# Altium footprint library 28Pins_Project_V1I1.PcbLib: 27 footprints (part 1 of 2)
Each footprint in its own frame and in the unit in brackets; x right, y up, seen from the top. Pads: shape width x height; smd on the part's side, far side on the other; paste and mask are expansions set on the pad; w line width, h text height; cw(c..) or ccw(c..) is an arc to the next point about the centre after c.
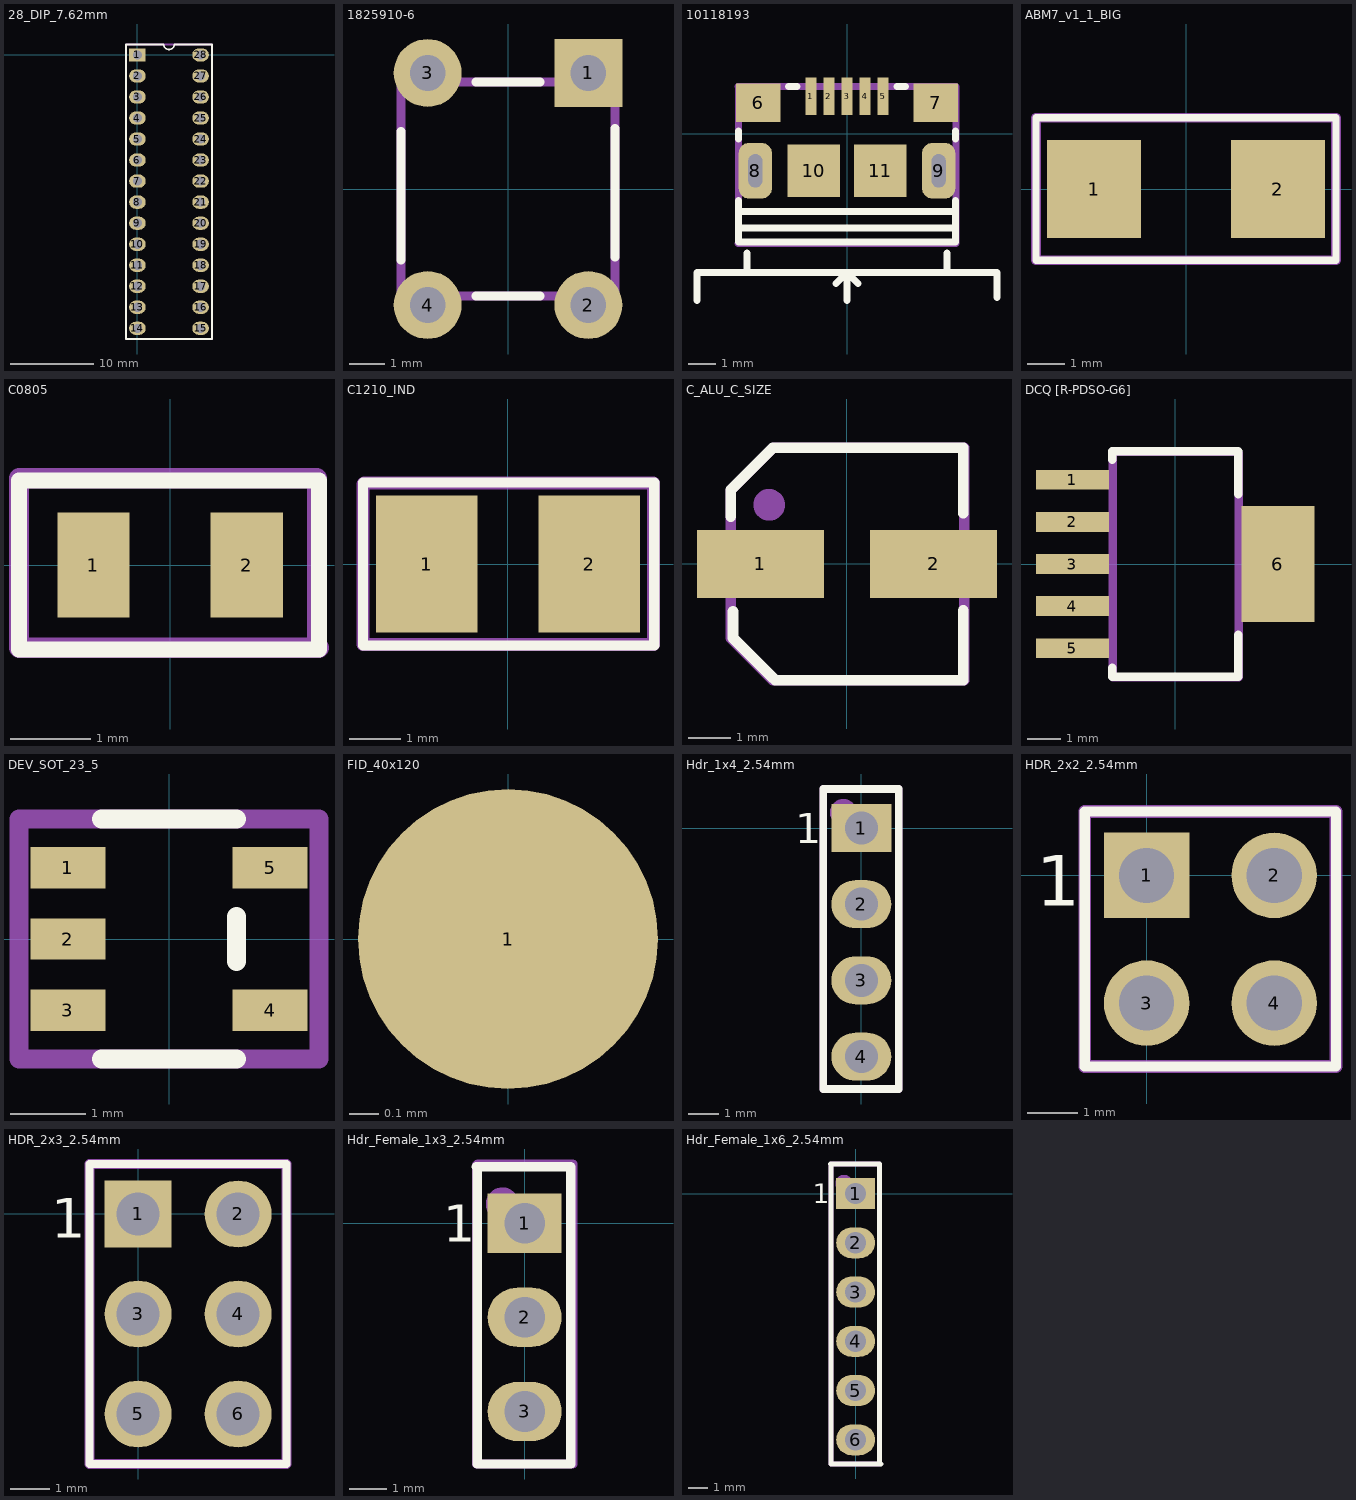
[diagram p0: the footprints below, top view; thin cyan lines are the x and y axes]

## 28-DIP 7.62MM SCKT [mm]
3D body "dil_socket.stp": height 2.8, standoff -4.57, extent -1.2,-34.25 8.9,1.25

## 28_DIP_7.62mm [mm]
pads (28):
  rect 2x1.6 hole 1.1: 1(0,0)
  oval 2x1.6 hole 1.1: 2(0,-2.54) 3(0,-5.08) 4(0,-7.62) 5(0,-10.16) 6(0,-12.7) 7(0,-15.24) 8(0,-17.78) 9(0,-20.32) 10(0,-22.86) 11(0,-25.4) 12(0,-27.94) 13(0,-30.48) 14(0,-33.02) 15(7.62,-33.02) 16(7.62,-30.48) 17(7.62,-27.94) 18(7.62,-25.4) 19(7.62,-22.86) 20(7.62,-20.32) 21(7.62,-17.78) 22(7.62,-15.24) 23(7.62,-12.7) 24(7.62,-10.16) 25(7.62,-7.62) 26(7.62,-5.08) 27(7.62,-2.54) 28(7.62,0)
Top Overlay:
  lines w0.2: 3.175,1.27 -1.39,1.27 -1.39,-34.31 9.01,-34.31 9.01,1.27 4.445,1.27 ; 3.175,1.29 ccw(c3.81,1.29) 4.445,1.29
Mechanical 1:
  circle w0.5: c-0.105,-0.03 r0.2
  lines w0.254: -1.39,1.27 -1.39,-34.31 9.01,-34.31 9.01,1.27 -1.39,1.27 ; -1.39,1.27 -1.39,1.27
  text ".Designator" at 4.511,-25.009 h3
3D body "DIP-28 N.step": height 7.5, standoff 0.15, extent -0.758,-34.21 8.379,0.99

## 1825910-6 [mm]
pads (4):
  rect 1.9x1.9 hole 1: 1(2.25,3.25)
  round 1.9 hole 1: 2(2.25,-3.25) 3(-2.25,3.25) 4(-2.25,-3.25)
Top Overlay:
  lines w0.254: -3,-1.988 -3,-1.088 -3,0.712 -3,1.612 ; -0.9,-3 0.9,-3 ; -0.9,3 0.9,3 ; 3,-1.9 3,1.7
Mechanical 1:
  lines w0.254: -3,-3 -3,1.7 -3,3 3,3 3,-1.4 3,-2.54 3,-3 ; -2.985,-3 0,-3 2.982,-3
3D body "User Library-FSM4JLH(1825910-5).step": height 5, standoff -3.51, extent -2.995,-3.9 2.995,3.898

## 10118193 [mm]
pads (11):
  rect 0.4x1.35 smd mask+0.05: 1(-1.3,1.338) 2(-0.65,1.338) 3(0,1.338) 4(0.65,1.338) 5(1.3,1.338)
  rect 1.6x1.4 smd: 6(-3.2,1.112) 7(3.2,1.112)
  rrect60% 1.2x2 hole 0.5 slot 1.2 at 90 deg mask+0.05: 8(-3.3,-1.338) 9(3.3,-1.338)
  rect 1.9x1.9 smd: 10(-1.2,-1.338) 11(1.2,-1.338)
Top Overlay:
  lines w0.254: -5.4,-6 -5.4,-5 5.4,-5 5.4,-5.9 ; -3.9,-3.392 3.895,-3.392 ; -3.9,-2.8 3.866,-2.8 ; -3.9,-2.4 -3.9,-3.9 3.9,-3.9 3.9,-2.4 ; -3.9,-0.2 -3.9,0.1 ; -3.6,-5 -3.6,-4.3 ; -2.1,1.7 -1.8,1.7 ; -0.4,-5.4 0,-5 ; 0,-6 0,-5 ; 0.4,-5.4 0,-5 ; 1.8,1.7 2.1,1.7 ; 3.6,-5 3.6,-4.3 ; 3.9,-0.2 3.9,0.1
Mechanical 1:
  lines w0.254: -3.928,-3.961 3.928,-3.961 3.928,1.7 -3.928,1.7 -3.898,1.669 -3.913,1.685 -3.906,1.677 -3.906,-3.938 -3.928,-3.961
  text ".Designator" at -1.546,-0.438 h1.52
3D body "10118193-0001LF..stp": height 2.71, standoff -0.89, extent -3.928,-3.961 3.928,1.7

## ABM7_v1_1_BIG [mm]
pads (2):
  rect 2.5x2.6 smd: 1(-2.45,0) 2(2.45,0)
Top Overlay:
  lines w0.2: -4,-1.9 4,-1.9 4,1.9 -4,1.9 -4,-1.9
Mechanical 1:
  lines w0.254: -4,-1.9 4,-1.9 4,1.9 -4,1.9 -4,-1.9
  text ".Designator" at -2.746,-0.538 h1.52
3D body "ABM7-16.000MHZ-D2Y-T.STEP": height 1.41, standoff 0.01, extent -3,-1.75 3,1.75

## C0805 [mm]
pads (2):
  rect 0.9x1.3 smd: 1(-0.95,0) 2(0.95,0)
Top Overlay:
  lines w0.2: 1.85,1.05 -1.875,1.05 -1.875,-1.05 1.85,-1.05 1.85,1.05 ; 1.85,1.05 1.85,1.05
Mechanical 1:
  lines w0.254: 1.825,-1 1.825,1.075 -1.875,1.075 -1.875,-1.025 1.85,-1.025
  text ".Designator" at -1.125,-0.25 h0.6
3D body "User Library-CAP0805-1.STEP": height 1.25, standoff 0, extent -1.025,-0.7 0.975,0.55
3D body "User Library-CAP0805-1.STEP": height 1.75, standoff 0.5, extent -1.025,-0.7 0.975,0.55

## C1210_IND [mm]
pads (2):
  rect 2x2.7 smd: 1(-1.6,0) 2(1.6,0)
Top Overlay:
  lines w0.2: -2.85,-1.6 -2.85,1.6 2.875,1.6 2.875,-1.6 -2.85,-1.6
Mechanical 1:
  lines w0.254: -2.85,1.575 -2.85,-1.58 2.86,-1.58 2.86,1.594 -1.486,1.594 -2.831,1.594
  text ".Designtor" at -1.95,-0.317 h1
3D body: height 2.7, standoff 0, extent -1.6,-1.25 -1.25,1.25
3D body: height 5.41, standoff -0.01, extent -0.5,3.25 -0.5,3.25
3D body: height 2.7, standoff 0, extent 1.25,-1.25 1.6,1.25
3D body: height 2.7, standoff 0, extent -1.25,-1.25 1.25,1.25
3D body: height 5.41, standoff -0.01, extent 0.7,2.1 0.7,2.1

## C_ALU_C_SIZE [mm]
pads (2):
  rect 3x1.6 smd: 1(-2.05,0) 2(2.05,0)
Top Overlay:
  lines w0.254: -2.75,1.125 -2.75,1.75 ; -2.7,-1.125 -2.7,-1.75 -1.75,-2.7 -1.7,-2.75 0.675,-2.75 2.75,-2.75 2.75,-1.1 ; 2.75,1.2 2.75,2.75 -1.75,2.75 ; -2.75,1.75 -1.75,2.75 ; -2.75,1.75 -1.75,2.75
Mechanical 1:
  circle w0.5: c-1.843,1.401 r0.125
  lines w0.254: -2.75,-1.75 -1.75,-2.75 2.775,-2.75 2.775,2.75 -1.75,2.75 -2.75,1.75 -2.75,-1.75
  text ".Designator" at -1.8,-0.767 h1.3
3D body "User Library-capacitor size C.step": height 5.41, standoff -0.01, extent -2.95,-2.65 2.95,2.65

## DCQ [R-PDSO-G6] [mm]
pads (6):
  rect 2.2x0.6 smd: 1(-3.1,2.54) 2(-3.1,1.27) 3(-3.1,0) 4(-3.1,-1.27) 5(-3.1,-2.54)
  rect 2.2x3.5 smd: 6(3.1,0)
Top Overlay:
  lines w0.254: -1.9,-3.13 -1.9,-3.4 1.9,-3.4 1.9,-2.14 ; -1.9,3.15 -1.9,3.4 1.9,3.4 1.9,2.11
Mechanical 1:
  lines w0.254: -1.89,3.41 -1.88,3.4 -1.88,3.37 ; -1.89,-3.42 1.91,-3.42 1.91,3.36 1.885,3.385 -1.88,3.385 -1.89,3.375 -1.89,-3.42
  text ".Designator" at -0.74,-0.82 h1.5
3D body "User Library-TPS73701DCQ.step": height 1.79, standoff -0.01, extent -3.69,-3.29 3.57,3.26

## DEV_SOT_23_5 [mm]
pads (5):
  rect 1x0.55 smd: 1(-1.35,0.95) 2(-1.35,0) 3(-1.35,-0.95) 4(1.35,-0.95) 5(1.35,0.95)
Top Overlay:
  lines w0.254: -0.9,-1.6 0.9,-1.6 ; -0.9,1.6 0.9,1.6 ; 0.9,-0.3 0.9,0.3
Mechanical 1:
  circle w0.2: c-1.345,0.943 r0.1
  lines w0.254: -2,-1.6 2,-1.6 2,1.6 -2,1.6 -2,-1.6
  text ".Designator" at -1.4,-0.3 h0.6
3D body "User Library-TPS560200DBV.step": height 1.31, standoff -0.14, extent -1.514,-1.5 1.514,1.5

## FID_40x120 [mil]
pads (1):
  round 40 smd paste-40 mask+40: 1(0,0)

## Hdr_1x4_2.54mm [mm]
pads (4):
  rect 2x1.6 hole 1.1: 1(0,0)
  oval 2x1.6 hole 1.1: 2(0,-2.54) 3(0,-5.08) 4(0,-7.62)
Top Overlay:
  lines w0.254: -1.275,-8.7 1.244,-8.7 1.244,1.3 0.675,1.3 -0.6,1.3 -1.275,1.3 -1.275,-8.7
  text "1" at -2.2,-0.5 h1
Mechanical 1:
  circle w0.5: c-0.597,0.517 r0.2
  lines w0.254: -1.275,1.3 1.244,1.3 1.244,-8.7 -1.275,-8.7 -1.275,1.3 ; -1.275,1.3 -1.275,1.3
  text ".Designator" at 0.464,-6.585 h1.52
3D body "HDR_1x4_White.stp": height 8.3, standoff -3.2, extent -1.221,-8.7 1.189,1.06

## HDR_2x2_2.54mm [mm]
pads (4):
  rect 1.7x1.7 hole 1.1: 1(0,0)
  round 1.7 hole 1.1: 2(2.54,0) 3(0,-2.54) 4(2.54,-2.54)
Top Overlay:
  lines w0.2: -1.23,-3.8 -1.23,1.27 3.77,1.27 3.77,-3.8 -1.23,-3.8
  text "1" at -2.2,-0.6 h1
Mechanical 1:
  circle w0.508: c-0.437,0.36 r0.1
  lines w0.254: -1.23,-3.8 -1.23,1.27 3.77,1.27 3.77,-3.8 -1.23,-3.8
  text ".Designator" at 1.778,-2.286 h1.52
3D body "961204-6404-AR.stp": height 8, standoff -3.3, extent -1.23,-3.81 3.77,1.27

## HDR_2x3_2.54mm [mm]
pads (6):
  rect 1.7x1.7 hole 1.1: 1(0,0)
  round 1.7 hole 1.1: 2(2.54,0) 3(0,-2.54) 4(2.54,-2.54) 5(0,-5.08) 6(2.54,-5.08)
Top Overlay:
  lines w0.2: -1.23,-6.35 -1.23,1.27 3.77,1.27 3.77,-6.35 -1.23,-6.35
  text "1" at -2.2,-0.6 h1
Mechanical 1:
  circle w0.508: c-0.437,0.36 r0.1
  lines w0.254: -1.23,-6.35 -1.23,1.27 3.77,1.27 3.77,-6.35 -1.23,-6.35
  text ".Designator" at 1.908,-4.886 h1.52
3D body "3M_961206-6404-AR_HDRV6W64P254_2X3_762X500X800-550-330.STEP": height 8, standoff -3.3, extent -1.23,-6.35 3.77,1.27

## Hdr_Female_1x3_2.54mm [mm]
pads (3):
  rect 2x1.6 hole 1.1: 1(0,0)
  oval 2x1.6 hole 1.1: 2(0,-2.54) 3(0,-5.08)
Top Overlay:
  lines w0.254: -1.306,1.525 -0.669,1.525 0.606,1.525 1.244,1.525 1.244,-6.5 -1.275,-6.5 -1.275,1.5
  text "1" at -2.2,-0.5 h1
Mechanical 1:
  circle w0.5: c-0.597,0.517 r0.2
  lines w0.254: -1.3,-6.5 -1.3,1.563 -1.263,1.6 -0.631,1.6 0.631,1.6 1.3,1.6 1.3,-6.5 -1.3,-6.5
  text ".Designator" at 0.482,-4.278 h1.52
3D body "User Library-1x3 TH Pitch 2_54mm.STEP": height 6.31, standoff -6.39, extent -1.27,-6.35 1.27,1.27

## Hdr_Female_1x6_2.54mm [mm]
pads (6):
  rect 2x1.6 hole 1.1: 1(0,0)
  oval 2x1.6 hole 1.1: 2(0,-2.54) 3(0,-5.08) 4(0,-7.62) 5(0,-10.16) 6(0,-12.7)
Top Overlay:
  lines w0.254: -1.306,1.525 -0.669,1.525 0.606,1.525 1.244,1.525 1.244,-13.95 ; -1.275,-13.95 -1.275,1.5 ; -1.203,-13.95 1.315,-13.95
  text "1" at -2.2,-0.5 h1
Mechanical 1:
  circle w0.5: c-0.597,0.517 r0.2
  lines w0.254: -1.275,-13.95 -1.275,1.525 1.244,1.525 1.244,-13.95 -1.275,-13.95
  text ".Designator" at 0.482,-11.559 h1.52
3D body "1x6.STEP": height 8.51, standoff -9.13, extent -1.296,-13.832 1.244,1.408